# EAGLE library part CD4070 (library 40xx)
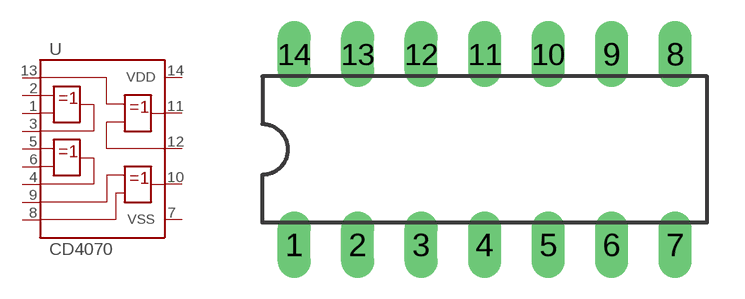
[diagram p1: symbol with the pads of DIL14; footprint DIL14]

Designator prefix -

## CD4070  [DIL14]
1  1  in
2  2  in
3  3  out
4  4  out
5  5  in
6  6  in
7  7  pwr
8  8  in
9  9  in
10  10  out
11  11  out
12  12  in
13  13  in
14  14  pwr

## Footprint DIL14 (pad centres in mm)
Dual In Line Package
drill 0.813 long: 1 -7.62,-3.81; 2 -5.08,-3.81; 3 -2.54,-3.81; 4 0,-3.81; 5 2.54,-3.81; 6 5.08,-3.81; 7 7.62,-3.81; 8 7.62,3.81; 9 5.08,3.81; 10 2.54,3.81; 11 0,3.81; 12 -2.54,3.81; 13 -5.08,3.81; 14 -7.62,3.81